# Altium schematic symbol library Comparators.SchLib: 2 symbols
Pins are listed as number, name and electrical type; pins without a type are passive.

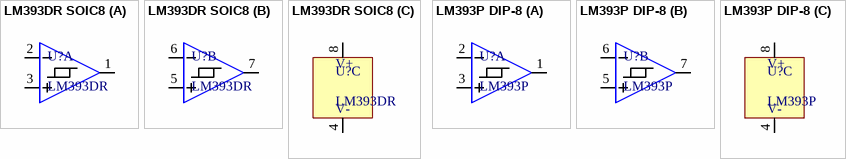
[diagram p0: symbols LM393DR SOIC8 to LM393P DIP-8]

## LM393DR SOIC8
designator U?, comment LM393DR
LM393DR Dual Comparator SOIC8 Package; Manufacturer: Texas Instruments; Type: Comparator; Package Type: SMD; Package: SOIC8
footprint SOIC8 (SOIC8 SMD package)
part A pins: 1, 2, 3
part B pins: 5, 6, 7
part C pins: 4, 8
part C text: V+; V-

## LM393P DIP-8
designator U?, comment LM393P
LM393P Dual Comparator DIP-8 Package; Manufacturer: Texas Instruments; Type: Comparator; Package Type: THT; Package: DIP-8
footprint DIP-8 (DIP-8 THT package)
footprint DIP-8 socket (Socket for DIP-8 ICs)
part A pins: 1, 2, 3
part B pins: 5, 6, 7
part C pins: 4, 8
part C text: V+; V-